# Altium integrated library opamps.IntLib: 29 symbols
Pins are listed as number, name and electrical type; pins without a type are passive.

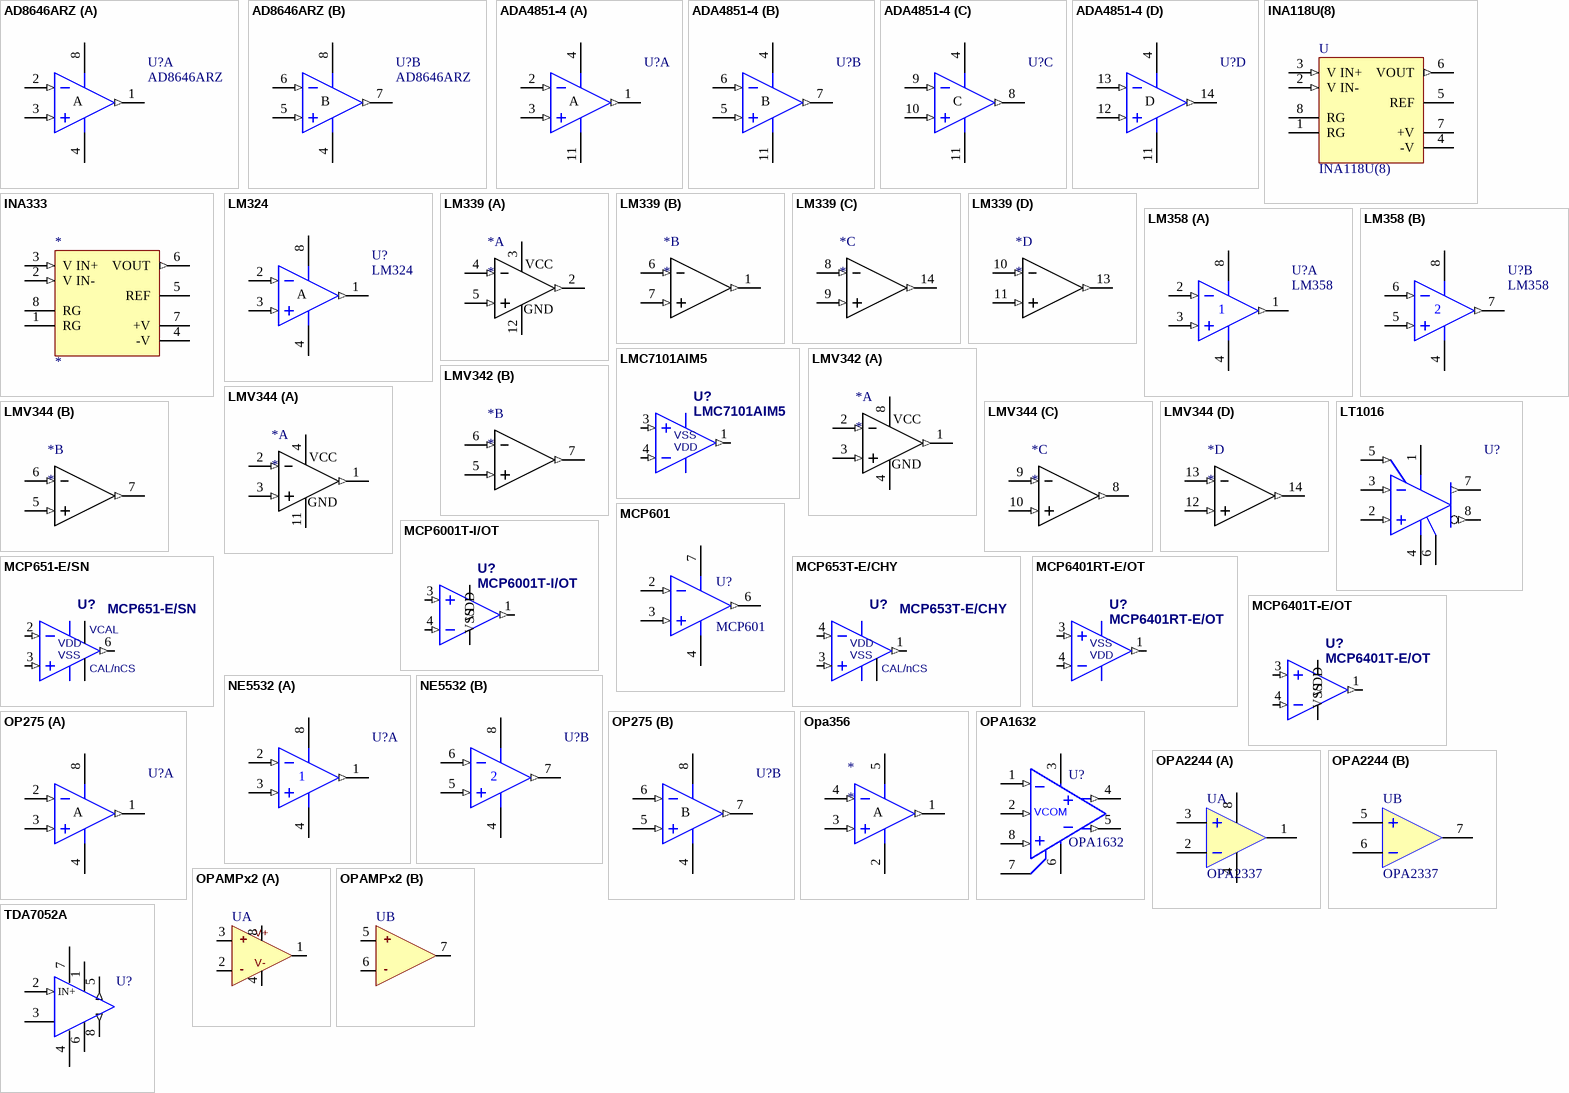
[diagram p0: symbols AD8646ARZ to TDA7052A]

## AD8646ARZ
designator U?
24 MHz Rail-to-Rail Amplifiers with Shutdown Option; Published: 26-Jul-2008; PackageReference: SO-8; Publisher: mmakow; PackageDescription: 8-Pin Small Outline Integrated Circuit 1.27 mm Pitch
footprint SO8 (Small Outline; 8 Leads; Body Width 3.7 mm; Pitch 1.27 mm)
pins on every part: 4 V- (power), 8 V+ (power)
part A pins: 1 OUT (out), 2 IN- (in), 3 IN+ (in)
part B pins: 5 IN+ (in), 6 IN- (in), 7 OUT (out)
part A text: A
part B text: B

## ADA4851-4
designator U?
Low Cost, High Speed,  Rail-to-Rail Output Operational Amplifier; Published: 06-Apr-2006
footprint TSSOP14 (14-Lead Thin Shrink Small Outline Package (TSSOP))
pins on every part: 4 V+ (power), 11 V- (power)
part A pins: 1 OUT (out), 2 IN- (in), 3 IN+ (in)
part B pins: 5 IN+ (in), 6 IN- (in), 7 OUT (out)
part C pins: 8 OUT (out), 9 IN- (in), 10 IN+ (in)
part D pins: 12 IN+ (in), 13 IN- (in), 14 OUT (out)
part A text: A
part B text: B
part C text: C
part D text: D

## INA118U(8)
designator U
Precision, Low Power Instrumentation Amplifier
footprint DIP8
footprint SO8 (Small Outline; 8 Leads; Body Width 3.7 mm; Pitch 1.27 mm)
pins: 1 RG, 2 V IN- (in), 3 V IN+ (in), 4 -V (power), 5 REF, 6 VOUT (out), 7 +V (power), 8 RG

## INA333
designator *
footprint MSOP8 (Footprint not found)
pins: 1 RG, 2 V IN- (in), 3 V IN+ (in), 4 -V (power), 5 REF, 6 VOUT (out), 7 +V (power), 8 RG

## LM324
designator U?
Quadruple High-gain Frequency-compensated Operational Amplifiers; Published: 13-Mar-2007; PackageReference: SO-8
simulation model LM324 (LM324 OPERATIONAL AMPLIFIER "MACROMODEL" SUBCIRCUIT)
pins: 1 OUT (out), 2 IN- (in), 3 IN+ (in), 4 V- (power), 8 V+ (power)
text: A

## LM339
designator *
footprint SO14
part A pins: 2 1 Out (out), 3 V+ (power), 4 1in - (in), 5 1in+ (in), 12 GND (power)
part B pins: 1 2 Out (out), 6 2in - (in), 7 2in+ (in)
part C pins: 8 3in - (in), 9 3in+ (in), 14 3 Out (out)
part D pins: 10 4in - (in), 11 4in+ (in), 13 4 Out (out)
part A text: VCC

## LM358
designator U?
Dual Operational Amplifier; Published: 30-May-2007; PackageReference: SO-8
footprint SO8 (Small Outline; 8 Leads; Body Width 3.7 mm; Pitch 1.27 mm)
footprint DIP8
footprint DIP8_MANUAL
pins on every part: 4 V- (power), 8 V+ (power)
part A pins: 1 OUT (out), 2 IN- (in), 3 IN+ (in)
part B pins: 5 IN+ (in), 6 IN- (in), 7 OUT (out)

## LMC7101AIM5
designator U?
Tiny Low Power Operational Amplifier with Rail-to-Rail Input and Output; Supplier 1: TME; Supplier 2: Farnell; Supplier 3: Farnell; Supplier 4: Farnell; Supplier Part Number 1: LMC7101AIM5NOPB; Supplier Part Number 2: 1496035; Supplier Part Number 3: 9779914; Supplier Part Number 4: 1468894
footprint SOT-23-5 (, AKA: SOT753 (NXP), TSOP5 (NXP))
pins: 1 OUT (out), 2 V+ (power), 3 IN+ (in), 4 IN- (in), 5 V- (power)
1 alternate drawing of the same symbol
text: VSS; VDD

## LMV342
designator *
footprint MSOP8
footprint SOIC (PowerPad)
part A pins: 1 1 Out (out), 2 1in - (in), 3 1in+ (in), 4 GND (power), 8 V+ (power)
part B pins: 5 2in+ (in), 6 2in - (in), 7 2 Out (out)
part A text: VCC

## LMV344
designator *
footprint SO14
footprint SSOP14
part A pins: 1 1 Out (out), 2 1in - (in), 3 1in+ (in), 4 V+ (power), 11 GND (power)
part B pins: 5 2in+ (in), 6 2in - (in), 7 2 Out (out)
part C pins: 8 3 Out (out), 9 3in - (in), 10 3in+ (in)
part D pins: 12 4in+ (in), 13 4in - (in), 14 4 Out (out)
part A text: VCC

## LT1016
designator U?
Ultra-Fast, Precision TTL Comparator; Published: 15-Jan-2007; PackageReference: SO-8
footprint SO8 (Small Outline; 8 Leads; Body Width 3.7 mm; Pitch 1.27 mm)
pins: 1 V+ (power), 2 IN+ (in), 3 IN- (in), 4 V- (power), 5 LE (in), 6 GND (power), 7 Q (out), 8 ~{Q} (out)

## MCP601
designator U?
2.7V to 5.5V Single-Supply CMOS Op Amp
footprint SO8 (Small Outline; 8 Leads; Body Width 3.7 mm; Pitch 1.27 mm)
footprint DIP8
footprint DIP8_MANUAL
pins: 2 IN- (in), 3 IN+ (in), 4 V- (power), 6 OUT (out), 7 V+ (power)

## MCP651-E/SN
designator U?
50 MHz, 6 mA Op Amps with mCal
footprint SO8 (Small Outline; 8 Leads; Body Width 3.7 mm; Pitch 1.27 mm)
pins: 2 IN- (in), 3 IN+ (in), 4 VSS (power), 5 VCAL, 6 OUT (out), 7 VDD (power), 8 CAL/nCS
1 alternate drawing of the same symbol

## MCP653T-E/CHY
designator U?
50 MHz, 200 µV Op Amps with mCal
footprint SOT-23-6 (SOT23-6, AKA: SOT-26 (Diodes), SuperSOT-6 (Fairchild), SOT753 (NXP), TSOP5 (NXP))
pins: 1 OUT (out), 2 VSS (power), 3 IN+ (in), 4 IN- (in), 5 CAL/nCS, 6 VDD (power)
1 alternate drawing of the same symbol

## MCP6001T-I/OT
designator U?
Rail-to-rail, 1MHz, 100uA Op Amp; Supplier 1: Farnell; Supplier 2: Farnell; Supplier 3: Farnell; Supplier 4: TME; Supplier 5: TME; Supplier 6: Farnell; Supplier Part Number 1: 4974992; Supplier Part Number 2: 2412853; Supplier Part Number 3: 4974992RL; Supplier Part Number 4: TS912ID; Supplier Part Number 5: MCP6001T-I/OT; Supplier Part Number 6: 1094386
footprint SOT-23-5 (, AKA: SOT753 (NXP), TSOP5 (NXP))
pins: 1 OUT (out), 2 VSS (power), 3 IN+ (in), 4 IN- (in), 5 VDD (power)
1 alternate drawing of the same symbol

## MCP6401RT-E/OT
designator U?
Rail-to-rail, 1MHz, 45uA Op Amp (farnell 1825040); Supplier 1: TME; Supplier 2: Farnell; Supplier Part Number 1: MCP6401RT-E/OT; Supplier Part Number 2: 1852101
footprint SOT-23-5 (, AKA: SOT753 (NXP), TSOP5 (NXP))
pins: 1 OUT (out), 2 V+ (power), 3 IN+ (in), 4 IN- (in), 5 V- (power)
1 alternate drawing of the same symbol
text: VSS; VDD

## MCP6401T-E/OT
designator U?
Rail-to-rail, 1MHz, 45uA Op Amp (farnell 1825040); Supplier 1: Farnell; Supplier 2: TME; Supplier Part Number 1: 1825040; Supplier Part Number 2: MCP6401T-E/OT
footprint SOT-23-5 (, AKA: SOT753 (NXP), TSOP5 (NXP))
pins: 1 OUT (out), 2 VSS (power), 3 IN+ (in), 4 IN- (in), 5 VDD (power)
1 alternate drawing of the same symbol

## NE5532
designator U?
Dual Low-Noise Operational Amplifier; Published: 1-Jun-2006; PackageReference: SO-8
footprint SO8 (Small Outline; 8 Leads; Body Width 3.7 mm; Pitch 1.27 mm)
pins on every part: 4 V- (power), 8 V+ (power)
part A pins: 1 OUT (out), 2 IN- (in), 3 IN+ (in)
part B pins: 5 IN+ (in), 6 IN- (in), 7 OUT (out)

## OP275
designator U?
Dual Bipolar/JFET, Audio Operational Amplifier; Published: 5-May-2006; PackageReference: SO-8
footprint SO8 (Small Outline; 8 Leads; Body Width 3.7 mm; Pitch 1.27 mm)
pins on every part: 4 V- (power), 8 V+ (power)
part A pins: 1 OUT (out), 2 IN- (in), 3 IN+ (in)
part B pins: 5 IN+ (in), 6 IN- (in), 7 OUT (out)
part A text: A
part B text: B

## Opa356
designator *
footprint sot-23/5
pins: 1 OUT (out), 2 V- (power), 3 IN+ (in), 4 IN- (in), 5 V+ (power)
text: A

## OPA1632
designator U?
High-Performance, Fully-Differential  AUDIO OP AMP; Published: 26-Jul-2008; LatestRevisionDate: Sep-2006; DatasheetVersion: Sep-2006; Publisher: mmakow; ComponentLink1Description: Manufacturer Link; ComponentLink1URL: http://www.ti.com/; ComponentLink2Description: Datasheet
footprint SOIC (PowerPad)
pins: 1 IN- (in), 2 VOCM (in), 3 V+ (power), 4 OUT+ (out), 5 OUT+ (out), 6 V- (power), 7 EN, 8 IN+ (in)
text: VCOM

## OPA2244
designator U, comment OPA2337
footprint SO8 (Small Outline; 8 Leads; Body Width 3.7 mm; Pitch 1.27 mm)
footprint SOT-23-8
part A pins: 1, 2, 3, 4, 8
part B pins: 5, 6, 7

## OPAMPx2
designator U
footprint SO8 (Small Outline; 8 Leads; Body Width 3.7 mm; Pitch 1.27 mm)
part A pins: 1, 2, 3, 4, 8
part B pins: 5, 6, 7
part A text: V+; +; V-; -
part B text: +; -

## TDA7052A
designator U?
1 W BTL mono audio amplifier with DC  volume control; Published: 03-Apr-2006
pins: 1 VP (power) "Positive Supply Voltage", 2 IN+ (in) "Positive Input", 3 x (power) "Signal Ground", 4 VC "DC Volume Control", 5 OUT+ (out) "Positive Output", 6 GND (power) "Power Ground", 7 NC (power) "not connected", 8 Out- (out) "Negative Output"

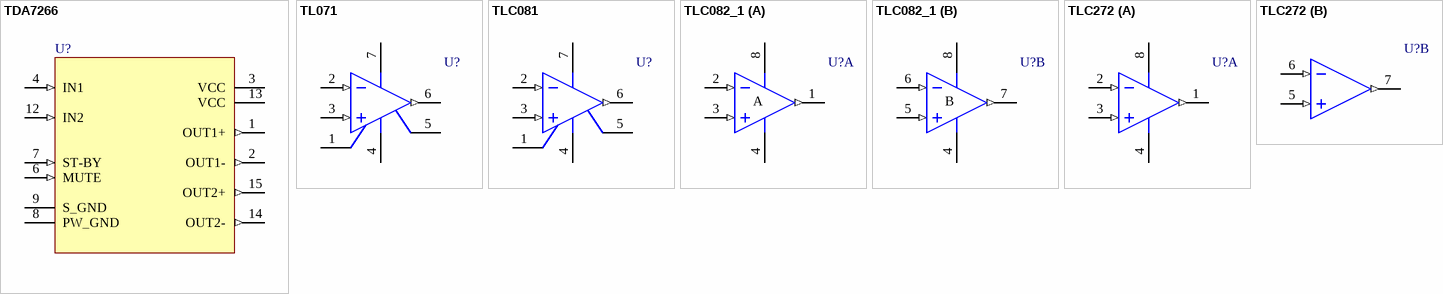
[diagram p1: symbols TDA7266 to TLC272]

## TDA7266
designator U?
7+7W Dual Bridge Amplifier; Published: 12-Sep-2006; PackageReference: Multiwatt15V
footprint Multiwatt15V
pins: 1 OUT1+ (out), 2 OUT1- (out), 3 VCC (power), 4 IN1 (in), 6 MUTE (in), 7 ST-BY (in), 8 PW_GND (power), 9 S_GND (power), 12 IN2 (in), 13 VCC (power), 14 OUT2- (out), 15 OUT2+ (out)

## TL071
designator U?
Low-Noise J-FET Single Operational Amplifier; Published: 08-Sep-2006; PackageReference: SO8
footprint SO8 (Small Outline; 8 Leads; Body Width 3.7 mm; Pitch 1.27 mm)
pins: 1 OS NULL, 2 IN- (in), 3 IN+ (in), 4 V- (power), 5 OS NULL, 6 OUT (out), 7 V+ (power)

## TLC081
designator U?
Wide-Bandwith High-Output-Drive Operational Amplifier; Published: 23-Jan-2007; PackageReference: SO8
footprint SO8 (Small Outline; 8 Leads; Body Width 3.7 mm; Pitch 1.27 mm)
pins: 1 OS NULL, 2 IN- (in), 3 IN+ (in), 4 V- (power), 5 OS NULL, 6 OUT (out), 7 V+ (power)

## TLC082_1
designator U?
JFET-Input Operational Amplifier; Published: 13-Mar-2007; PackageReference: SO-8
footprint SO8 (Small Outline; 8 Leads; Body Width 3.7 mm; Pitch 1.27 mm)
pins on every part: 4 V- (power), 8 V+ (power)
part A pins: 1 OUT (out), 2 IN- (in), 3 IN+ (in)
part B pins: 5 IN+ (in), 6 IN- (in), 7 OUT (out)
part A text: A
part B text: B

## TLC272
designator U?
LinCMOS(tm) PRECISION DUAL OPERATIONAL AMPLIFIERS; Published: 08-Sep-2006; PackageReference: SO8
footprint SO8 (Small Outline; 8 Leads; Body Width 3.7 mm; Pitch 1.27 mm)
part A pins: 1 OUT (out), 2 IN- (in), 3 IN+ (in), 4 GND (power), 8 VDD (power)
part B pins: 5 IN+ (in), 6 IN- (in), 7 OUT (out)